# Altium schematic symbol library Gate Driver Board.SchLib: 120 symbols
Pins are listed as number, name and electrical type; pins without a type are passive.

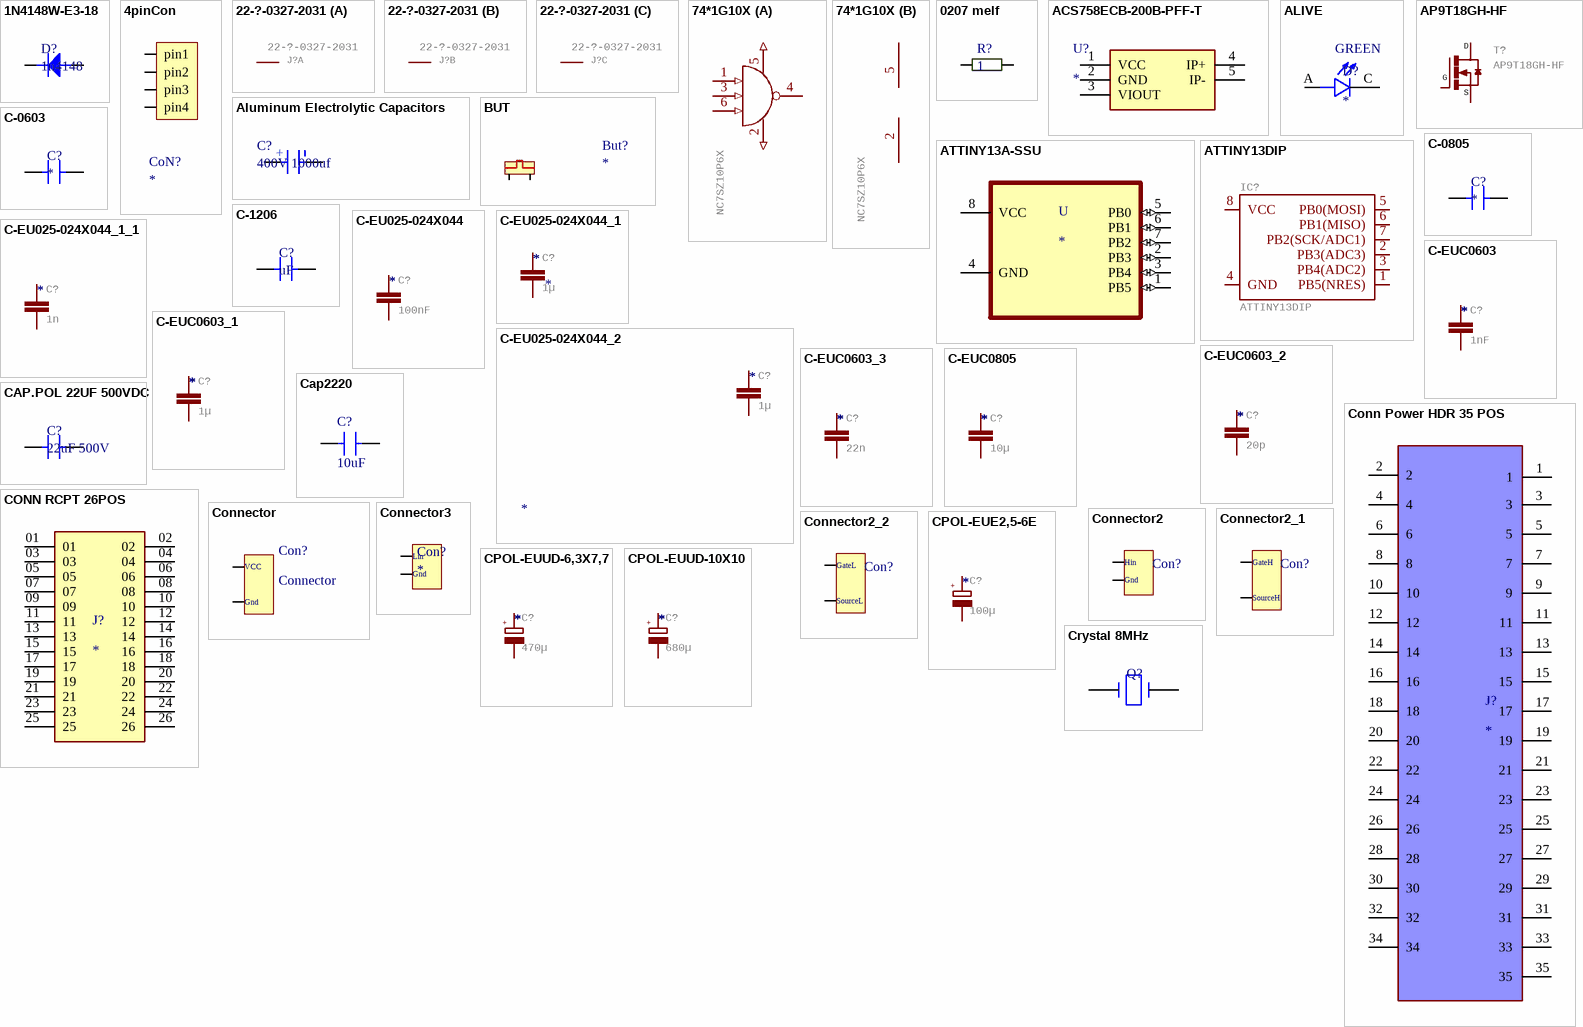
[diagram p0: symbols 1N4148W-E3-18 to Crystal 8MHz]

## 1N4148W-E3-18
designator D?, comment 1n4148
Diode Small Signal Switching 100V 0.15A 2-Pin SOD-123 T/R; Manufacturer: Vishay; Manufacturer Part Number: 1N4148W-E3-18; Recovery Time: 4ns; Max Power Dissipation: 350mW; Forward Current: 150mA; Max Surge Current: 2A; Forward Voltage: 1.2V; Max Reverse Leakage Current: 5uA; Element Configuration: Single; Max Reverse Voltage (DC): 75V; Peak Reverse Current: 100uA; Supplier 1: Allied Electronics; RoHS: Yes; Stock 1: 6838; Pricing 1: 1 = 0.03900, 25 = 0.03800, 100 = 0.03600, 250 = 0.03400, 500 = 0.03200, 1000 = 0.03100, 2500 = 0.02900 (USD); Mount: Surface Mount; Number of Pins: 2; Weight: 0.000363oz; Contact Plating: Tin; Min Operating Temperature: -55°C; Max Operating Temperature: 150°C; Packaging: Tape and Reel; Package Quantity: 10000; Average Rectified Current: 150mA; Reverse Recovery Time: 4ns; Power Dissipation: 350mW; Max Repetitive Reverse Voltage (Vrrm): 100V; Peak Non-Repetitive Surge Current: 2A; Length: 2.85mm; Height: 1.25mm; Width: 1.7mm; Radiation Hardening: No; Lead Free: Lead Free; ComponentLink1URL: https://datasheet.ciiva.com/29885/1n4148w-29885941.pdf?src-supplier=Avnet; ComponentLink1Description: https://datasheet.ciiva.com/29885/1n4148w-29885941.pdf?src-supplier=Avnet; ComponentLink2URL: https://datasheet.ciiva.com/29593/1n4148w-29593113.pdf?src-supplier=Digi-Key; ComponentLink2Description: https://datasheet.ciiva.com/29593/1n4148w-29593113.pdf?src-supplier=Digi-Key; ComponentLink3URL: https://datasheet.ciiva.com/29593/1n4148w-29593111.pdf?src-supplier=Digi-Key; ComponentLink3Description: https://datasheet.ciiva.com/29593/1n4148w-29593111.pdf?src-supplier=Digi-Key; ComponentLink4URL: https://datasheet.ciiva.com/29593/1n4148w-29593112.pdf?src-supplier=Digi-Key; ComponentLink4Description: https://datasheet.ciiva.com/29593/1n4148w-29593112.pdf?src-supplier=Digi-Key; Supplier Part Number 1: 70061597
footprint SOD123
pins: a, k

## 4pinCon
designator CoN?
footprint 4pinCon
pins: 1 pin1, 2 pin2, 3 pin3, 4 pin4

## 22-?-0327-2031
designator J?
CONNECTOR   wire to board 2.54 mm (.1 inch) pitch header; GateName_1: -1; SymbolName_1: MV; GateName_2: -2; SymbolName_2: M; GateName_3: -3; SymbolName_3: M; DeviceName: 27-2031; LibraryName: con-molex; DeviceSetName: 22-?-03; MF: MF; MPN: MPN; OC_FARNELL: unknown; OC_NEWARK: unknown
footprint 6410-03
part A pins: 1 S
part B pins: 2 S
part C pins: 3 S

## 74*1G10X
designator IC?, comment NC7SZ10P6X
3-input NAND gate; GateName_1: >NAME; SymbolName_1: 7412; GateName_2: PWR; SymbolName_2: PWRN-1; DeviceName: X; DeviceSetName: 74*1G10; LibraryName: 74xx-eu
footprint SC70-6
part A pins: 1 I0 (in), 2 I0 (in), 3 I1 (in), 4 O (oc), 5 I0 (in), 6 I2 (in)
part B pins: 2 GND (power), 5 VCC (power)

## 0207 melf
designator R?, comment 1
ComponentLink1Description: https://www.ozdisan.com/pasif-komponentler/direncler/smt-smd-direncler/M271UFG100KT20; ComponentLink1URL: https://www.ozdisan.com/pasif-komponentler/direncler/smt-smd-direncler/M271UFG100KT20
footprint RESMELF (MELF Resistor, 2-Leads, Body 5.85x2.30mm, IPC Medium Density)
pins: 1, 2

## ACS758ECB-200B-PFF-T
designator U?
Undefined or Miscellaneous; Manufacturer_Name: Allegro Microsystems; Manufacturer_Part_Number: ACS758ECB-200B-PFF-T; Datasheet Link: http://www.farnell.com/datasheets/926109.pdf; Arrow Part Number: ACS758ECB-200B-PFF-T; Arrow Price/Stock: https://www.arrow.com/en/products/acs758ecb-200b-pff-t/allegro-microsystems
footprint ACS756SCA-050B-PFF-T_2
footprint ACS756SCA-050B-PFF-T_2
pins: 1 VCC, 2 GND, 3 VIOUT, 4 IP+, 5 IP-

## ALIVE
designator D?
Green LED Indication - Discrete 1.7V 0805 (2012 Metric); MP: 7012X1; Package: None; Price: None; Value: *; Availability: Unavailable
footprint LED_7012X1
pins: A, C
text: GREEN

## Aluminum Electrolytic Capacitors
designator C?, comment 400V 1000uf
Manufacturer: Nichicon; Manufacturer Part Number: LKS1J472MESZ; Capacitance: 4.7mF; Voltage Rating: 63V; Tolerance: 20%; Ripple Current: 3A; Life (Hours): 1000Hour; Supplier 1: Mouser; RoHS: Yes; Mount: Through Hole; Case/Package: Radial; Min Operating Temperature: -40°C; Max Operating Temperature: 85°C; Package Quantity: 250; Packaging: Bulk; Voltage Rating (DC): 63V; Termination: Snap in; Diameter: 22mm; Length: 45mm; Lead Pitch: 0.394inch; Height - Seated (Max): 1.772inch; Supplier Part Number 1: 647-LKS1J472MESZ; ComponentLink2Description: https://www.ozdisan.com/pasif-komponentler/kondansatorler/aluminyum-kondansatorler/PKL5-063V472MM450; ComponentLink2URL: https://www.ozdisan.com/pasif-komponentler/kondansatorler/aluminyum-kondansatorler/PKL5-063V472MM450
footprint Koshin 63v 4700 cap
pins: 1, 2
text: +

## AP9T18GH-HF
designator T?
GateName_1: G$1; SymbolName_1: MOSFET_N; LibraryName: transistor-power; DeviceSetName: AP9T18GH-HF; D: D; S: S; G: G
footprint D-PAK_TO252AA
pins: 1 G, 3 S, 4 D

## ATTINY13A-SSU
designator U
AVR AVRÂ® ATtiny Microcontroller IC 8-Bit 20MHz 1KB _512 x 16_ FLASH 8-SOIC; MF: Microchip Technology; MP: ATTINY13A-SSU; Package: SOIC-8 Microchip Technology; Price: None; SnapEDA_Link: https://www.snapeda.com/parts/ATTINY13A-SSU/Microchip/view-part/4423156/?ref=snap; Availability: Unavailable; Value: *
footprint SOIC127P798X216-8N
pins: 1 PB5 (io), 2 PB3 (io), 3 PB4 (io), 4 GND, 5 PB0 (io), 6 PB1 (io), 7 PB2 (io), 8 VCC (power)

## ATTINY13DIP
designator IC?
Atmel 8-pin 1kB flash uC; GateName_1: G$1; DeviceName: DIP; SymbolName_1: ATTINY13; LibraryName: SparkFun-DigitalIC; DeviceSetName: ATTINY13
footprint DIP08
pins: 1 PB5(NRES) (io), 2 PB3(ADC3) (io), 3 PB4(ADC2) (io), 4 GND (io), 5 PB0(MOSI) (io), 6 PB1(MISO) (io), 7 PB2(SCK/ADC1) (io), 8 VCC (io)

## BUT
designator But?
footprint ButTON
pins: 1, 2

## C-0603
designator C?
footprint C-0603W (capacitor 0603 wave soldering)
pins: 1, 2

## C-0805
designator C?
footprint C-0805
pins: 1, 2

## C-1206
designator C?, comment uF
footprint C-1206
pins: 1, 2

## C-EU025-024X044
designator C?  value 100nF
CAPACITOR, European symbol; GateName_1: G$1; SymbolName_1: C-EU; DeviceName: 025-024X044; LibraryName: rcl; DeviceSetName: C-EU
footprint C025-024X044
pins: 1, 2

## C-EU025-024X044_1
designator C?  value 1µ
CAPACITOR, European symbol; GateName_1: G$1; SymbolName_1: C-EU; DeviceName: 025-024X044; LibraryName: rcl; DeviceSetName: C-EU
footprint C025-024X044
pins: 1, 2

## C-EU025-024X044_1_1
designator C?  value 1n
CAPACITOR, European symbol; GateName_1: G$1; SymbolName_1: C-EU; DeviceName: 025-024X044; LibraryName: rcl; DeviceSetName: C-EU
footprint C025-024X044
pins: 1, 2

## C-EU025-024X044_2
designator C?  value 1µ
CAPACITOR, European symbol; GateName_1: G$1; SymbolName_1: C-EU; DeviceName: 025-024X044; LibraryName: rcl; DeviceSetName: C-EU
footprint C025-024X044
pins: 1, 2

## C-EUC0603
designator C?  value 1nF
CAPACITOR, European symbol; GateName_1: G$1; SymbolName_1: C-EU; DeviceName: C0603; LibraryName: rcl; DeviceSetName: C-EU
footprint C0603
pins: 1, 2

## C-EUC0603_1
designator C?  value 1µ
CAPACITOR, European symbol; GateName_1: G$1; SymbolName_1: C-EU; DeviceName: C0603; LibraryName: rcl; DeviceSetName: C-EU
footprint C0603
pins: 1, 2

## C-EUC0603_2
designator C?  value 20p
CAPACITOR, European symbol; GateName_1: G$1; SymbolName_1: C-EU; DeviceName: C0603; LibraryName: rcl; DeviceSetName: C-EU
footprint C0603
pins: 1, 2

## C-EUC0603_3
designator C?  value 22n
CAPACITOR, European symbol; GateName_1: G$1; SymbolName_1: C-EU; DeviceName: C0603; LibraryName: rcl; DeviceSetName: C-EU
footprint C0603
pins: 1, 2

## C-EUC0805
designator C?  value 10µ
CAPACITOR, European symbol; GateName_1: G$1; SymbolName_1: C-EU; DeviceName: C0805; LibraryName: rcl; DeviceSetName: C-EU
footprint C0805
pins: 1, 2

## Cap2220
designator C?, comment 10uF
2220; Özdisan Part Number: CL31B475KBHNNNE; Manufacturer: SAMSUNG; Link: https://www.ozdisan.com/pasif-komponentler/kondansatorler/smd-kondansatorler-mlcc/CL31B475KBHNNNE; Price: 0,10407
footprint C-2220R (capacitor 2220 reflow soldering)
pins: 1, 2

## CAP.POL 22UF 500VDC
designator C?, comment 22uF 500V
ComponentLink1Description: https://www.ozdisan.com/pasif-komponentler/kondansatorler/film-kondansatorler/C3D2H226JB00C00; ComponentLink1URL: https://www.ozdisan.com/pasif-komponentler/kondansatorler/film-kondansatorler/C3D2H226JB00C00
footprint CAP.POL 22UF 500VDC - duplicate
pins: 1, 2

## Conn Power HDR 35 POS
designator J?
Conn Power HDR 35 POS 4mm Solder ST Thru-Hole 35 Terminal 1 Port Automotive Loose; MP: 776230-2; MF: TE Connectivity; Package: None; EU_RoHS_Compliance: Compliant; DigiKey-Purchase-URL: https://snapeda.com/shop?store=DigiKey&id=1466385; Value: *; Availability: Unavailable; Price: None; SnapEDA_Link: https://www.snapeda.com/parts/776230-2/TE%20Connectivity%20AMP%20Connectors/view-part/1466385/?ref=snap
footprint TE_776230-2
pins: 1, 2, 3, 4, 5, 6, 7, 8, 9, 10, 11, 12, 13, 14, 15, 16, 17, 18, 19, 20, 21, 22, 23, 24, 25, 26, 27, 28, 29, 30, 31, 32, 33, 34, 35

## CONN RCPT 26POS
designator J?
CONN RCPT 26POS 0.1 GOLD PCB; MF: Samtec; MP: SSQ-113-04-L-D; Purchase-URL: https://pricing.snapeda.com/search/part/SSQ-113-04-L-D/?ref=eda; SnapEDA_Link: https://www.snapeda.com/parts/SSQ-113-04-L-D/Samtec/view-part/?ref=snap; Value: *; Package: None; Check_prices: https://www.snapeda.com/parts/SSQ-113-04-L-D/Samtec/view-part/?ref=eda; Price: None; Availability: In Stock
footprint SAMTEC_SSQ-113-04-L-D
pins: 01, 02, 03, 04, 05, 06, 07, 08, 09, 10, 11, 12, 13, 14, 15, 16, 17, 18, 19, 20, 21, 22, 23, 24, 25, 26

## Connector
designator Con?
System: Connector
footprint Conn
pins: 1, 2
text: VCC; Gnd

## Connector2
designator Con?  (value not drawn)
System: Connector
footprint Conn
pins: 1, 2
text: Hin; Gnd

## Connector2_1
designator Con?  (value not drawn)
System: Connector
footprint Conn
pins: 1, 2
text: GateH; SourceH

## Connector2_2
designator Con?  (value not drawn)
System: Connector
footprint Conn
pins: 1, 2
text: GateL; SourceL

## Connector3
designator Con?
System: Connector
footprint Conn
pins: 1, 2
text: Lin; Gnd

## CPOL-EUE2,5-6E
designator C?  value 100µ
POLARIZED CAPACITOR, European symbol; GateName_1: G$1; SymbolName_1: CPOL; DeviceName: E2,5-6E; DeviceSetName: CPOL-EU; LibraryName: rcl; +: +
footprint E2,5-6E
pins: +, -

## CPOL-EUUD-6,3X7,7
designator C?  value 470µ
POLARIZED CAPACITOR, European symbol; GateName_1: G$1; SymbolName_1: CPOL; DeviceName: UD-6,3X7,7; DeviceSetName: CPOL-EU; LibraryName: rcl; +: +
footprint UD-6,3X7,7_NICHICON
pins: +, -

## CPOL-EUUD-10X10
designator C?  value 680µ
POLARIZED CAPACITOR, European symbol; GateName_1: G$1; SymbolName_1: CPOL; DeviceName: UD-10X10; DeviceSetName: CPOL-EU; LibraryName: rcl; +: +
footprint UD-10X10_NICHICON
pins: +, -

## Crystal 8MHz
designator Q?  (value not drawn)
32MHz Â±30ppm Crystal 18pF 40 Ohms HC-49/US; MF: Abracon; MP: ABLS2-32.000MHZ-D4YF-T; SnapEDA_Link: https://www.snapeda.com/parts/ABLS2-32.000MHZ-D4YF-T/Abracon%20LLC/view-part/333468/?ref=snap; Digi-Key_Part_Number: 535-9888-1-ND; Mouser-Purchase-URL: https://snapeda.com/shop?store=Mouser&id=333468; Value: *; Package: HC49/US Abracon; DigiKey-Purchase-URL: https://snapeda.com/shop?store=DigiKey&id=333468; Check_prices: https://www.snapeda.com/parts/ABLS2-32.000MHZ-D4YF-T/Abracon%20LLC/view-part/333468/?ref=eda
footprint 5032-2P
pins: 1, 2

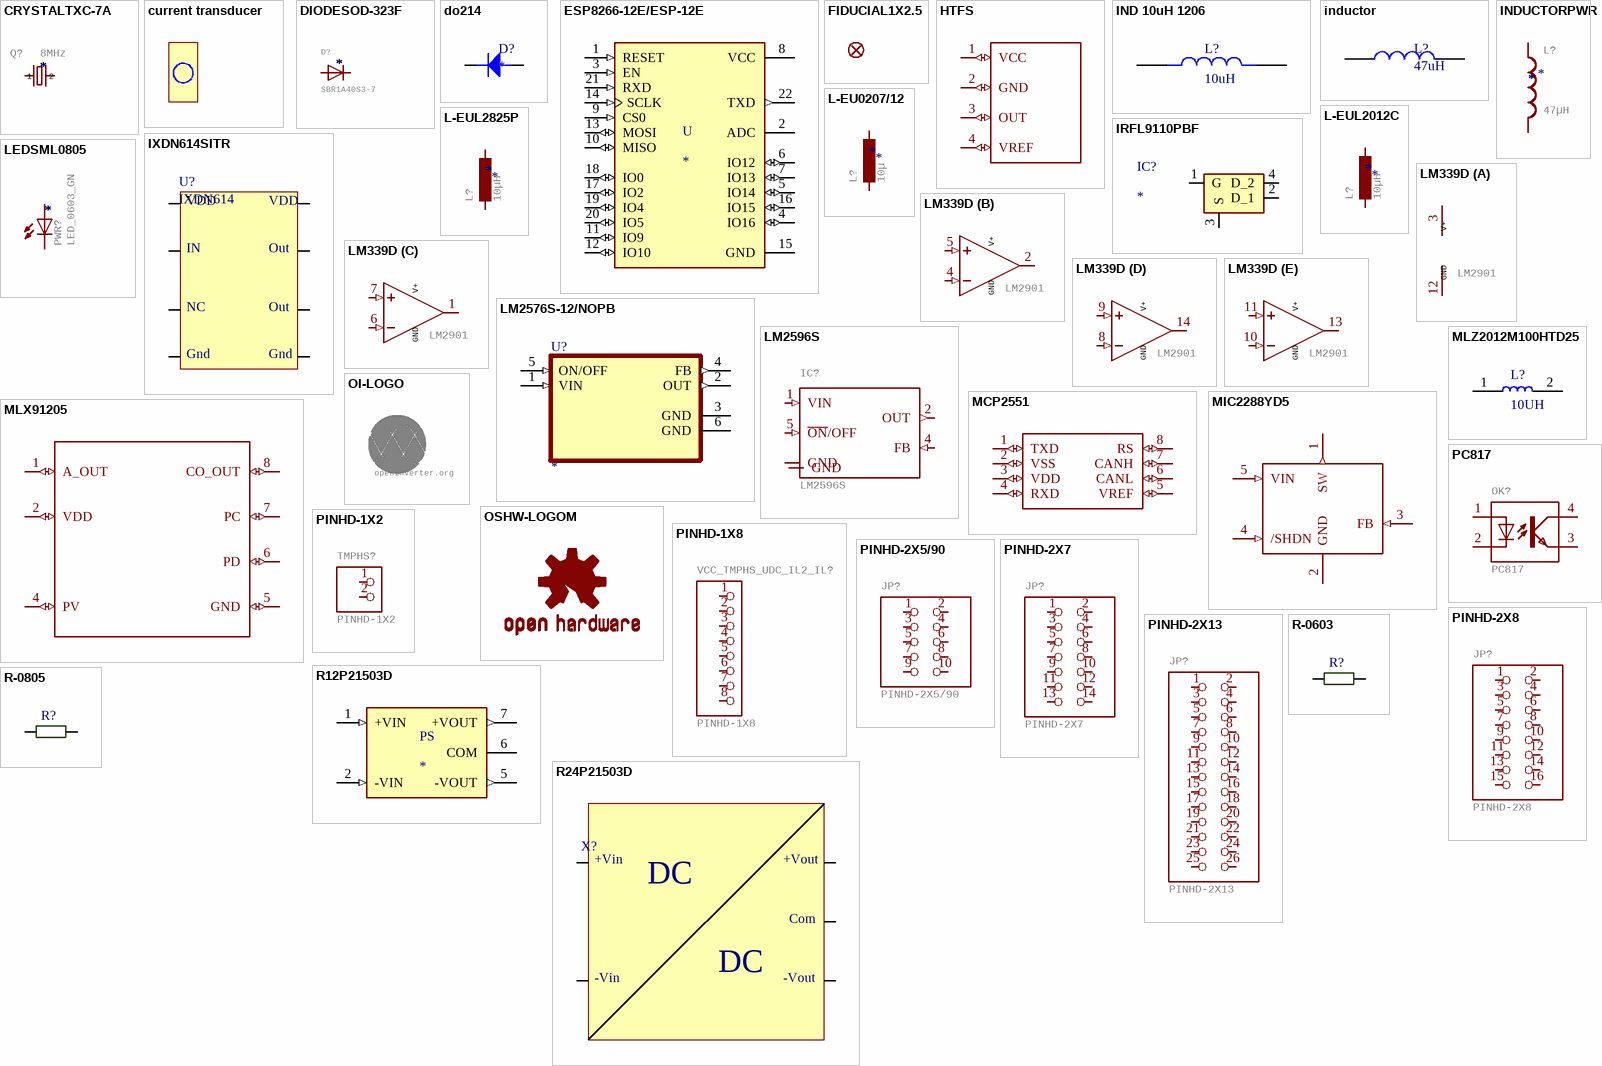
[diagram p1: symbols CRYSTALTXC-7A to R-0805]

## CRYSTALTXC-7A
designator Q?  value 8MHz
Various standard crystals. Proven footprints. Spark Fun Electronics SKU : COM-00534; GateName_1: G$1; SymbolName_1: Q; DeviceName: TXC-7A; LibraryName: SparkFun-FreqCtrl; DeviceSetName: CRYSTAL; 1: 1; 2: 2
footprint CRYSTAL-TXC-7A
pins: P$1 1, P$2 2

## current transducer
designator *  (value not drawn)
footprint currenttransducer

## DIODESOD-323F
designator D?  value SBR1A40S3-7
Diode   SMADIODE - SMA Surface Mount Package  20V 1A Schottky Diode Digikey: 641-1014-6-ND    DO-1N4148 - Through Hole Small Current Diode SOD-123 20V 1 A (.5mV Vf) Schottky Diode - Digikey: MBRX120TPMSCT-ND    SOD-323 10V 570mA (.38mV Vf, 3ns) Schottky Diode - Digikey: ZLLS410CT-ND    SOD-523 30V 30mA Schottky Diode (RB751S-40TE61) - Digikey: RB751S-40TE61CT-ND    SOT23-R/W - SOT23 Package (R = Solder Paste/Reflow Ovens, W = Hand-Soldering)  BAT54Film 40V 300mA - Digikey: 497-7162-1-ND; GateName_1: G$1; DeviceName: SOD-323F; SymbolName_1: DIODE; LibraryName: adafruit; DeviceSetName: DIODE
footprint SOD-323F
pins: A, C

## do214
designator D?
DIODE FAST SWITCHING Single 150mA 75V SMT SOD323
footprint DO-214AC
pins: a, k

## ESP8266-12E/ESP-12E
designator U
This WiFi module has a 32-bit MCU micro and clock speeds supporting 80 MHz or 160 MHz. Supports the RTOS and integrated Wi-Fi MAC/BB/RF/PA/LNA, and has an on-board antenna.; MP: ESP8266-12E/ESP-12E; MF: AI-Thinker; Price: None; Package: None; Value: *; Availability: Unavailable; SnapEDA_Link: https://www.snapeda.com/parts/ESP8266-12E/ESP-12E/AI-Thinker/view-part/106414/?ref=snap
footprint XCVR_ESP8266-12E/ESP-12E
pins: 1 RESET (in), 2 ADC, 3 EN (in), 4 IO16 (io), 5 IO14 (io), 6 IO12 (io), 7 IO13 (io), 8 VCC (power), 9 CS0 (in), 10 MISO (io), 11 IO9 (io), 12 IO10 (io), 13 MOSI (io), 14 SCLK (in), 15 GND (power), 16 IO15 (io), 17 IO2 (io), 18 IO0 (io), 19 IO4 (io), 20 IO5 (io), 21 RXD (in), 22 TXD (out)

## FIDUCIAL1X2.5
designator FID?  (value not drawn)
Fiducial Alignment PointsVarious fiducial points for machine vision alignment.; GateName_1: G$1; DeviceName: 1X2.5; SymbolName_1: FIDUCIAL; LibraryName: SparkFun-Aesthetics; DeviceSetName: FIDUCIAL
footprint FIDUCIAL-1X2.5

## HTFS
designator U$?  (value not drawn)
GateName_1: G$1; SymbolName_1: HTFS; LibraryName: lem; DeviceSetName: HTFS
footprint HTFS
pins: 1 VCC (io), 2 GND (io), 3 OUT (io), 4 VREF (io)

## IND 10uH 1206
designator L?, comment 10uH
3.33 ÂµH Unshielded - Inductor 50 mA 700mOhm Max 1206 (3216 Metric); MF: Laird; MP: IC1206A332R-10; Value: *; Availability: In Stock; Price: None; Package: 1206 Laird
footprint IND_IC1206A332R-10
pins: 1, 2

## inductor
designator L?, comment 47uH
footprint WE-TPC_282892
pins: 1, 2

## INDUCTORPWR
designator L?  value 47µH
Inductors   Basic Inductor/Choke - 0603 and 1206. Footprints are not proven and vary greatly between part numbers. SRN6045- 33uH, 20% 1.4A; GateName_1: G$1; DeviceName: PWR; SymbolName_1: INDUCTOR; LibraryName: SparkFun-Passives; DeviceSetName: INDUCTOR
footprint CDRH125
pins: 1, 2

## IRFL9110PBF
designator IC?
Integrated Circuit; Manufacturer_Name: Vishay; Manufacturer_Part_Number: IRFL9110PBF; Datasheet Link: http://www.vishay.com/docs/91196/sihfl911.pdf; Height: 1.8mm; Mouser Part Number: 844-IRFL9110PBF; Mouser Price/Stock: https://www.mouser.com/Search/Refine.aspx?Keyword=844-IRFL9110PBF
footprint SOT230P700X180-4N
pins: 1 G, 2 D_1, 3 S, 4 D_2

## IXDN614SITR
designator U?, comment IXDN614
14A 8SOIC EXP MTL NON INVERTING; Manufacturer: Ixys Clare; Manufacturer Part Number: IXDN614SITR; Rise Time: 35ns; Propagation Delay: 70ns; Max Supply Voltage: 35V; Min Supply Voltage: 4.5V; Number of Outputs: 1; Fall Time: 25ns; Supplier 1: Mouser; RoHS: Yes; Pricing 1: 1 = 4.24000, 10 = 3.79000, 50 = 3.41000, 100 = 3.10000, 1000 = 2.12000, 10000 = 1.90000 (USD); Mount: Surface Mount; Case/Package: SOIC; Number of Pins: 8; Min Operating Temperature: -40°C; Max Operating Temperature: 125°C; Max Output Current: 14A; Packaging: Tape and Reel; Package Quantity: 2000; Number of Drivers: 1; Lead Free: Lead Free; ComponentLink1URL: https://datasheet.ciiva.com/6613/ixd-614-6613145.pdf?src-supplier=Digi-Key; ComponentLink1Description: https://datasheet.ciiva.com/6613/ixd-614-6613145.pdf?src-supplier=Digi-Key; Supplier Part Number 1: 849-IXDN614SITR
footprint FAN3122 Soic8 (SOIC, 8-Leads, Body 4.95x3.95mm, Pitch 1.27mm, Thermal Pad 4.10x3.10mm, IPC Medium Density)
pins: 1, 2, 3, 4, 5, 6, 7, 8
text: VDD; IN; Out; NC; Gnd

## L-EU0207/12
designator L?  value 10µ
INDUCTOR, European symbol; GateName_1: G$1; SymbolName_1: L-EU; DeviceName: 0207/12; LibraryName: rcl; DeviceSetName: L-EU
footprint 0207/12
pins: 1, 2

## L-EUL2012C
designator L?  value 10µH
INDUCTOR, European symbol; GateName_1: G$1; SymbolName_1: L-EU; DeviceName: L2012C; LibraryName: rcl; DeviceSetName: L-EU
footprint L2012C
pins: 1, 2

## L-EUL2825P
designator L?  value 10µH
INDUCTOR, European symbol; GateName_1: G$1; SymbolName_1: L-EU; DeviceName: L2825P; LibraryName: rcl; DeviceSetName: L-EU
footprint L2825P
pins: 1, 2

## LEDSML0805
designator PWR?  value LED_0603_GN
LED   OSRAM: - CHIPLED LG R971, LG N971, LY N971, LG Q971, LY Q971, LO R971, LY R971 LH N974, LH R974 LS Q976, LO Q976, LY Q976 LO Q996 - Hyper CHIPLED LW Q18S LB Q993, LB Q99A, LB R99A - SideLED LS A670, LO A670, LY A670, LG A670, LP A670 LB A673, LV A673, LT A673, LW A673 LH A674 LY A675 LS A676, LA A676, LO A676, LY A676, LW A676 LS A679, LY A679, LG A679 -  Hyper Micro SIDELEDÂ® LS Y876, LA Y876, LO Y876, LY Y876 LT Y87S - SmartLED LW L88C, LW L88S LB L89C, LB L89S, LG L890 LS L89K, LO L89K, LY L89K LS L896, LA L896, LO L896, LY L896 - TOPLED LS T670, LO T670, LY T670, LG T670, LP T670 LSG T670, LSP T670, LSY T670, LOP T670, LYG T670 LG T671, LOG T671, LSG T671 LB T673, LV T673, LT T673, LW T673 LH T674 LS T676, LA T676, LO T676, LY T676, LB T676, LH T676, LSB T676, LW T676 LB T67C, LV T67C, LT T67C, LS T67K, LO T67K, LY T67K, LW E67C LS E67B, LA E67B, LO E67B, LY E67B, LB E67C, LV E67C, LT E67C LW T67C LS T679, LY T679, LG T679 LS T770, LO T770, LY T770, LG T770, LP T770 LB T773, LV T773, LT T773, LW T773 LH T774 LS E675, LA E675, LY E675, LS T675 LS T776, LA T776, LO T776, LY T776, LB T776 LHGB T686 LT T68C, LB T68C - Hyper Mini TOPLEDÂ® LB M676 - Mini TOPLED SantanaÂ® LG M470 LS M47K, LO M47K, LY M47K    Source: http://www.osram.convergy.de   LUXEON: - LUMILEDÂ® LXK2-PW12-R00, LXK2-PW12-S00, LXK2-PW14-U00, LXK2-PW14-V00 LXK2-PM12-R00, LXK2-PM12-S00, LXK2-PM14-U00 LXK2-PE12-Q00, LXK2-PE12-R00, LXK2-PE12-S00, LXK2-PE14-T00, LXK2-PE14-U00 LXK2-PB12-K00, LXK2-PB12-L00, LXK2-PB12-M00, LXK2-PB14-N00, LXK2-PB14-P00, LXK2-PB14-Q00 LXK2-PR12-L00, LXK2-PR12-M00, LXK2-PR14-Q00, LXK2-PR14-R00 LXK2-PD12-Q00, LXK2-PD12-R00, LXK2-PD12-S00 LXK2-PH12-R00, LXK2-PH12-S00 LXK2-PL12-P00, LXK2-PL12-Q00, LXK2-PL12-R00    Source: www.luxeon.com   KINGBRIGHT:   KA-3528ASYC Source: www.kingbright.com; GateName_1: G$1; DeviceName: SML0805; SymbolName_1: LED; LibraryName: led; DeviceSetName: LED
footprint SML0805
pins: A, C

## LM339D
designator IC?, comment LM2901
Low Power Low Offset Voltage Quad Comparators   with open collector; LM139/LM239/LM339/LM2901/LM3302; GateName_1: P; SymbolName_1: PWR+G; GateName_2: A; SymbolName_2: COMPARATOR-OC; GateName_3: B; GateName_4: C; GateName_5: D; DeviceSetName: LM339; SymbolName_3: COMPARATOR-OC; SymbolName_4: COMPARATOR-OC; SymbolName_5: COMPARATOR-OC; DeviceName: D; LibraryName: linear; V+: V+; GND: GND
footprint SO14
part A pins: 3 V+ (power), 12 GND (power)
part B pins: 2 OUT (oc), 4 -IN (in), 5 +IN (in)
part C pins: 1 OUT (oc), 6 -IN (in), 7 +IN (in)
part D pins: 8 -IN (in), 9 +IN (in), 14 OUT (oc)
part E pins: 10 -IN (in), 11 +IN (in), 13 OUT (oc)

## LM2576S-12/NOPB
designator U?
SIMPLE SWITCHER&reg; 40V, 3A Low Component Count Step-Down Regulator 5-DDPAK/TO-263 -40 to 125; MF: Texas Instruments; MP: LM2576S-12/NOPB; Availability: Warning; SnapEDA_Link: https://www.snapeda.com/parts/LM2576S-12/NOPB/Texas%20Instruments/view-part/470772/?ref=snap; Mouser-Purchase-URL: https://snapeda.com/shop?store=Mouser&id=470772; Texas_Instruments-Purchase-URL: https://snapeda.com/shop?store=Texas+Instruments&id=470772; Value: *; Price: None; Package: TO-263-5 Texas Instruments; DigiKey-Purchase-URL: https://snapeda.com/shop?store=DigiKey&id=470772; BuyPart: https://www.snapeda.com/parts/LM2576S-12/NOPB/Texas%20Instruments/view-part/470772/?ref=eda
footprint VREG_TPS79625KTTR
pins: 1 VIN (in), 2 OUT (out), 3 GND (power), 4 FB (out), 5 ON/OFF (in), 6 GND (power)

## LM2596S
designator IC?
SIMPLE SWITCHERÂ® Power Converter 150 kHz 3A Step-Down Voltage Regulator   Source: http://www.national.com/ds/LM/LM2596.pdf; MPN: LM2596S-ADJ/NOPB; GateName_1: G$1; SymbolName_1: LM2596; DeviceName: S; MF: NATIONAL SEMICONDUCTOR; LibraryName: national-semiconductor; DeviceSetName: LM2596; OC_FARNELL: 9494367; OC_NEWARK: 41K3842
footprint TO263-5
pins: 1 VIN (in), 2 OUT (out), 3  GND (power), 4 FB (in), 5 ~{ON}/OFF (in), 6 GND (power)

## MCP2551
designator IC?, comment SN65HVD230DR  (value not drawn)
CAN transceiver; GateName_1: G$1; SymbolName_1: MCP2551; LibraryName: SparkFun-DigitalIC; DeviceSetName: MCP2551
footprint SO08
pins: 1 TXD (io), 2 VSS (io), 3 VDD (io), 4 RXD (io), 5 VREF (io), 6 CANL (io), 7 CANH (io), 8 RS (io)

## MIC2288YD5
designator IC?  (value not drawn)
GateName_1: G$1; DeviceName: YD5; SymbolName_1: MIC2288; LibraryName: adafruit; DeviceSetName: MIC2288
footprint SOT23-5L
pins: 1 SW (out), 2 GND (power), 3 FB (in), 4 /SHDN (in), 5 VIN (in)

## MLX91205
designator IC?  (value not drawn)
GateName_1: G$1; SymbolName_1: MLX91205; LibraryName: melexis; DeviceSetName: MLX91205
footprint SO-08
pins: 1 A_OUT (io), 2 VDD (io), 4 PV (io), 5 GND (io), 6 PD (io), 7 PC (io), 8 CO_OUT (io)

## MLZ2012M100HTD25
designator L?, comment 10UH
FIXED IND 10UH 300MA 884 MOHM; MP: MLZ2012M100HTD25; Package: None; Price: None; Value: *; Availability: Unavailable
footprint INDC2012X87N
pins: 1, 2

## OI-LOGO
designator U$?  (value not drawn)
GateName_1: G$1; SymbolName_1: OI-LOGO; LibraryName: SparkFun-Aesthetics; DeviceSetName: OI-LOGO; openinverter.org: openinverter.org
footprint OI_LOGO

## OSHW-LOGOM
designator LOGO?  (value not drawn)
Open Source Hardware Logo This logo indicates the piece of hardware it is found on incorporates a OSHW license and/or adheres to the definition of open source hardware found here: http://freedomdefined.org/OSHW; GateName_1: G$1; DeviceName: M; SymbolName_1: OSHW-LOGO; LibraryName: SparkFun-Aesthetics; DeviceSetName: OSHW-LOGO
footprint OSHW-LOGO-M

## PC817
designator OK?
SHARP OPTO COUPLER; MPN: PC817X4J000F; GateName_1: A; SymbolName_1: OK; LibraryName: optocoupler; DeviceSetName: PC817; MF: MF; OC_FARNELL: 9707727; OC_NEWARK: 97K7059
footprint DIL04
pins: 1 A, 2 C, 3 EMIT, 4 COL

## PINHD-1X2
designator TMPHS?
PIN HEADER; GateName_1: G$1; SymbolName_1: PINHD2; LibraryName: pinhead; DeviceSetName: PINHD-1X2
footprint 1X02
pins: 1, 2

## PINHD-1X8
designator VCC_TMPHS_UDC_IL2_IL?
PIN HEADER; GateName_1: A; SymbolName_1: PINHD8; LibraryName: pinhead; DeviceSetName: PINHD-1X8
footprint 1X08
pins: 1, 2, 3, 4, 5, 6, 7, 8

## PINHD-2X5/90
designator JP?
PIN HEADER; GateName_1: A; SymbolName_1: PINH2X5; DeviceName: /90; LibraryName: pinhead; DeviceSetName: PINHD-2X5
footprint 2X05/90
pins: 1, 2, 3, 4, 5, 6, 7, 8, 9, 10

## PINHD-2X7
designator JP?
PIN HEADER; GateName_1: A; SymbolName_1: PINH2X7; LibraryName: pinhead; DeviceSetName: PINHD-2X7
footprint 2X07
pins: 1, 2, 3, 4, 5, 6, 7, 8, 9, 10, 11, 12, 13, 14

## PINHD-2X8
designator JP?
PIN HEADER; GateName_1: A; SymbolName_1: PINH2X8; LibraryName: pinhead; DeviceSetName: PINHD-2X8
footprint 2X08
pins: 1, 2, 3, 4, 5, 6, 7, 8, 9, 10, 11, 12, 13, 14, 15, 16

## PINHD-2X13
designator JP?
PIN HEADER; GateName_1: A; SymbolName_1: PINH2X13; LibraryName: pinhead; DeviceSetName: PINHD-2X13
footprint 2X13
pins: 1, 2, 3, 4, 5, 6, 7, 8, 9, 10, 11, 12, 13, 14, 15, 16, 17, 18, 19, 20, 21, 22, 23, 24, 25, 26

## R12P21503D
designator PS
2W DC/DC-Converter 'ECONOLINE' SIP7 6.4kV unreg; MF: Recom Power; MP: R12P21503D; SnapEDA_Link: https://www.snapeda.com/parts/R12P21503D/Recom%20Power/view-part/1592429/?ref=snap; Value: *; Digi-Key_Purchase_URL: https://www.digikey.ca/product-detail/en/recom-power/R12P21503D/945-3069-5-ND/7354331?utm_source=snapeda&utm_medium=aggregator&utm_campaign=symbol; Digi-Key_Part_Number: 945-3069-5-ND; Package: SIP-7 Recom Power
footprint CONV_R12P21503D
pins: 1 +VIN (in), 2 -VIN (in), 5 -VOUT (out), 6 COM (power), 7 +VOUT (out)

## R24P21503D
designator X?
Manufacturer: Recom; Manufacturer Part Number: R24P21503D; Max Output Voltage: 15V; Supplier 1: Digi-Key; RoHS: No; Stock 1: 378; Pricing 1: 1 = 8.78000, 5 = 8.71200, 10 = 8.64500, 25 = 8.51200, 50 = 8.24600, 100 = 7.44800, 250 = 7.31500, 500 = 7.18200 (USD); Weight: 4.3g; Length: 19.5mm; Height: 12.5mm; Width: 9.8mm; Supplier Part Number 1: 945-3071-5-ND
footprint SIP7
pins: 1, 2, 5, 6, 7
text: +Vin; +Vout; DC; Com; -Vin; -Vout

## R-0603
designator R?
footprint R-0603R (resistor 0603 reflow soldering)
pins: 1, 2

## R-0805
designator R?
footprint R-0805
pins: 1, 2

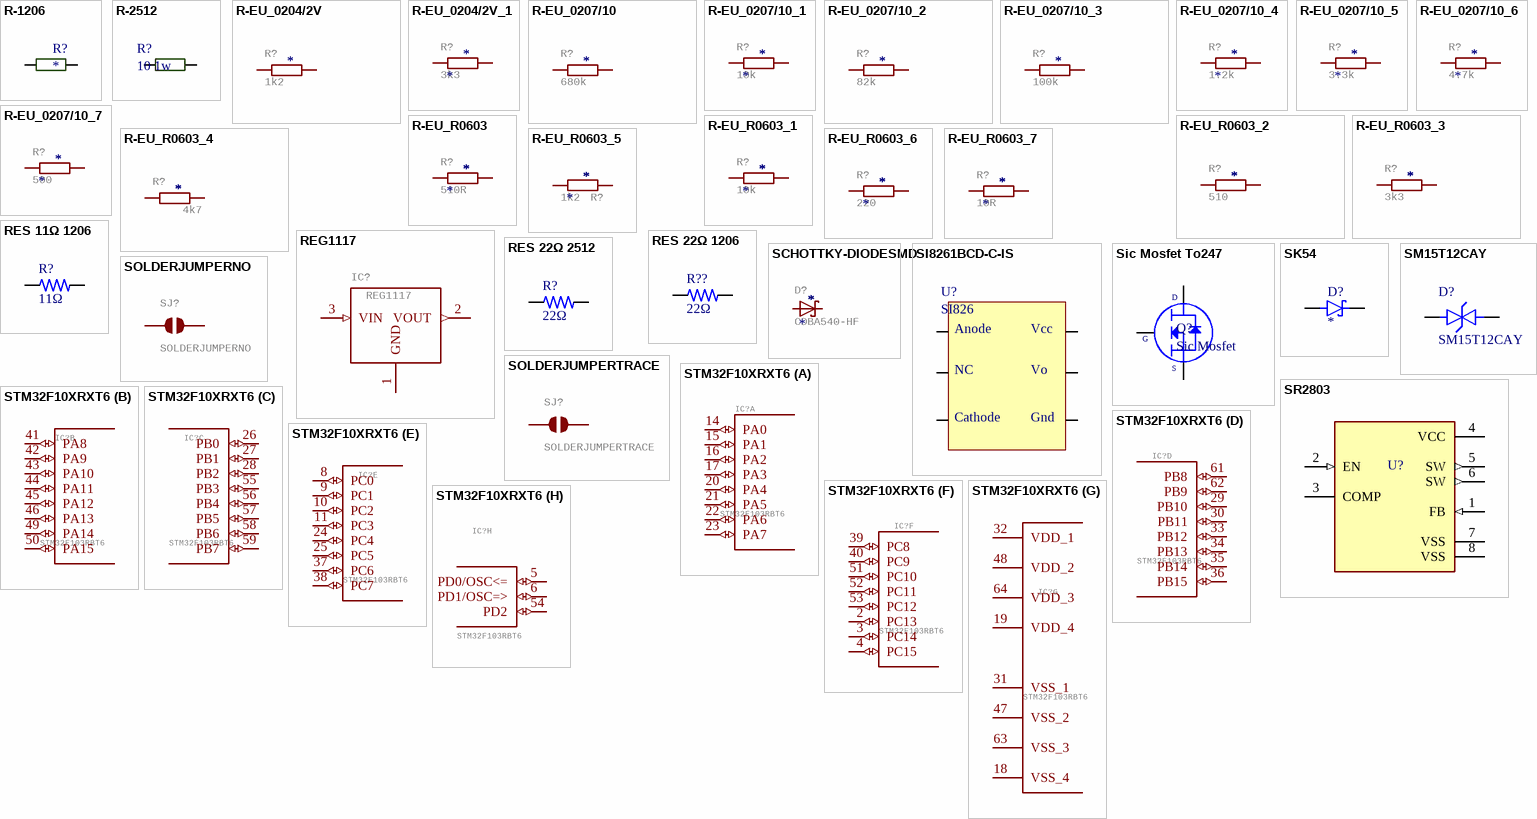
[diagram p2: symbols R-1206 to STM32F10XRXT6]

## R-1206
designator R?
Res1206
footprint R-1206
pins: 1, 2

## R-2512
designator R?, comment 10 1w
footprint R-2512
pins: 1, 2

## R-EU_0204/2V
designator R?  value 1k2
RESISTOR, European symbol; GateName_1: G$1; SymbolName_1: R-EU; DeviceName: 0204/2V; DeviceSetName: R-EU_; LibraryName: rcl
footprint 0204V
pins: 1, 2

## R-EU_0204/2V_1
designator R?  value 3k3
RESISTOR, European symbol; GateName_1: G$1; SymbolName_1: R-EU; DeviceName: 0204/2V; DeviceSetName: R-EU_; LibraryName: rcl
footprint 0204V
pins: 1, 2

## R-EU_0207/10
designator R?  value 680k
RESISTOR, European symbol; GateName_1: G$1; SymbolName_1: R-EU; DeviceName: 0207/10; DeviceSetName: R-EU_; LibraryName: rcl
footprint 0207/10
pins: 1, 2

## R-EU_0207/10_1
designator R?  value 10k
RESISTOR, European symbol; GateName_1: G$1; SymbolName_1: R-EU; DeviceName: 0207/10; DeviceSetName: R-EU_; LibraryName: rcl
footprint 0207/10
pins: 1, 2

## R-EU_0207/10_2
designator R?  value 82k
RESISTOR, European symbol; GateName_1: G$1; SymbolName_1: R-EU; DeviceName: 0207/10; DeviceSetName: R-EU_; LibraryName: rcl
footprint 0207/10
pins: 1, 2

## R-EU_0207/10_3
designator R?  value 100k
RESISTOR, European symbol; GateName_1: G$1; SymbolName_1: R-EU; DeviceName: 0207/10; DeviceSetName: R-EU_; LibraryName: rcl
footprint 0207/10
pins: 1, 2

## R-EU_0207/10_4
designator R?  value 1.2k
RESISTOR, European symbol; GateName_1: G$1; SymbolName_1: R-EU; DeviceName: 0207/10; DeviceSetName: R-EU_; LibraryName: rcl
footprint 0207/10
pins: 1, 2

## R-EU_0207/10_5
designator R?  value 3.3k
RESISTOR, European symbol; GateName_1: G$1; SymbolName_1: R-EU; DeviceName: 0207/10; DeviceSetName: R-EU_; LibraryName: rcl
footprint 0207/10
pins: 1, 2

## R-EU_0207/10_6
designator R?  value 4.7k
RESISTOR, European symbol; GateName_1: G$1; SymbolName_1: R-EU; DeviceName: 0207/10; DeviceSetName: R-EU_; LibraryName: rcl
footprint 0207/10
pins: 1, 2

## R-EU_0207/10_7
designator R?  value 500
RESISTOR, European symbol; GateName_1: G$1; SymbolName_1: R-EU; DeviceName: 0207/10; DeviceSetName: R-EU_; LibraryName: rcl
footprint 0207/10
pins: 1, 2

## R-EU_R0603
designator R?  value 510R
RESISTOR, European symbol; GateName_1: G$1; SymbolName_1: R-EU; DeviceName: R0603; DeviceSetName: R-EU_; LibraryName: rcl
footprint R0603
pins: 1, 2

## R-EU_R0603_1
designator R?  value 10k
RESISTOR, European symbol; GateName_1: G$1; SymbolName_1: R-EU; DeviceName: R0603; DeviceSetName: R-EU_; LibraryName: rcl
footprint R0603
pins: 1, 2

## R-EU_R0603_2
designator R?  value 510
RESISTOR, European symbol; GateName_1: G$1; SymbolName_1: R-EU; DeviceName: R0603; DeviceSetName: R-EU_; LibraryName: rcl
footprint R0603
pins: 1, 2

## R-EU_R0603_3
designator R?  value 3k3
RESISTOR, European symbol; GateName_1: G$1; SymbolName_1: R-EU; DeviceName: R0603; DeviceSetName: R-EU_; LibraryName: rcl
footprint R0603
pins: 1, 2

## R-EU_R0603_4
designator R?  value 4k7
RESISTOR, European symbol; GateName_1: G$1; SymbolName_1: R-EU; DeviceName: R0603; DeviceSetName: R-EU_; LibraryName: rcl
footprint R0603
pins: 1, 2

## R-EU_R0603_5
designator R?  value 1k2
RESISTOR, European symbol; GateName_1: G$1; SymbolName_1: R-EU; DeviceName: R0603; DeviceSetName: R-EU_; LibraryName: rcl
footprint R0603
pins: 1, 2

## R-EU_R0603_6
designator R?  value 220
RESISTOR, European symbol; GateName_1: G$1; SymbolName_1: R-EU; DeviceName: R0603; DeviceSetName: R-EU_; LibraryName: rcl
footprint R0603
pins: 1, 2

## R-EU_R0603_7
designator R?  value 10R
RESISTOR, European symbol; GateName_1: G$1; SymbolName_1: R-EU; DeviceName: R0603; DeviceSetName: R-EU_; LibraryName: rcl
footprint R0603
pins: 1, 2

## REG1117
designator IC?
800mA and 1A Low Dropout (LDO) Positive Regulator   1.8V, 2.5V, 2.85V, 3.3V, 5V, and Adj; GateName_1: G$1; SymbolName_1: REG1118; LibraryName: burr-brown; DeviceSetName: REG1117; MF: MF; MPN: REG1117; OC_FARNELL: 1097566; OC_NEWARK: 14P6981
footprint SOT223
pins: 1 GND (power), 2 VOUT (out), 3 VIN (in)

## RES 11Ω 1206
designator R?, comment 11Ω
CRG1206 1% 11R; MP: 1623463-1; Package: None; Price: None; Value: *; Availability: Unavailable
footprint R-1206W (resistor 1206 wave soldering)
pins: 1, 2

## RES 22Ω 1206
designator R??, comment 22Ω
CRG1206 1% 22R; MP: 1623463-1; Package: None; Price: None; Value: *; Availability: Unavailable
footprint R-1206W (resistor 1206 wave soldering)
pins: 1, 2

## RES 22Ω 2512
designator R?, comment 22Ω
footprint R-2512R (resistor 2512 reflow soldering)
footprint R-1206
pins: 1, 2

## SCHOTTKY-DIODESMD
designator D?  value CDBA540-HF
Schottky Diode; GateName_1: G$1; DeviceName: SMD; DeviceSetName: SCHOTTKY-DIODE; SymbolName_1: SCHOTTKY; LibraryName: diode
footprint SMB
pins: A, C

## SI8261BCD-C-IS
designator U?, comment SI826
Gate Drivers 5kV Opto input single Ch 2.5A drvr; Manufacturer: Silicon Labs; Manufacturer Part Number: SI8261BCD-C-IS; Number of Channels: 1; Propagation Delay: 50ns; Number of Outputs: 2; Max Output Current: 4A; Max Supply Voltage: 30V; Min Supply Voltage: 5V; Rise Time: 5.5ns; Output Current: 10mA; Nominal Supply Current: 2mA; Max Power Dissipation: 300mW; Output Voltage: 250mV; Forward Voltage: 2.8V; High Level Output Current: 1.2A; Low Level Output Current: 500mA; Fall Time: 8.5ns; Turn-On Delay Time: 60ns; Pulse Width Distortion (PWD): 10ns; Approvals: CSA; Supplier 1: Digi-Key; RoHS: Yes; Stock 1: 6966; Pricing 1: 1 = 1.95000, 25 = 1.88040, 100 = 1.80800, 1000 = 1.65000 (USD); Case/Package: SOIC; Number of Pins: 6; Min Operating Temperature: -40°C; Max Operating Temperature: 125°C; Package Quantity: 96; Packaging: Rail/Tube; Number of Drivers: 1; Element Configuration: Single; Length: 4.58mm; Height: 2.05mm; Width: 11.5mm; REACH SVHC: Unknown; ComponentLink1URL: https://datasheet.ciiva.com/30476/0900766b81299254-30476857.pdf?src-supplier=RSComponents; ComponentLink1Description: https://datasheet.ciiva.com/30476/0900766b81299254-30476857.pdf?src-supplier=RSComponents; ComponentLink2URL: https://datasheet.ciiva.com/18617/si826x-rev0-9-18617221.pdf?src-supplier=Digi-Key; ComponentLink2Description: https://datasheet.ciiva.com/18617/si826x-rev0-9-18617221.pdf?src-supplier=Digi-Key; ComponentLink3URL: https://datasheet.ciiva.com/46409/1816586-46409901.pdf?src-supplier=Element14; ComponentLink3Description: https://datasheet.ciiva.com/46409/1816586-46409901.pdf?src-supplier=Element14; Supplier Part Number 1: 336-2418-5-ND
footprint SOIC127P1150X265-6N
pins: 1, 2, 3, 4, 5, 6
text: Anode; Vcc; NC; Vo; Cathode; Gnd

## Sic Mosfet To247
designator Q?, comment Sic Mosfet
SiC Mosfet To247
footprint 247
pins: 1, 2, 3
text: D; G; S

## SK54
designator D?
Diode Schottky 40V 5A Surface Mount DO-214AA (SMB); MP: MBRS320T3G; MF: ON Semiconductor; Package: DO-214 ON Semiconductor; Availability: Good; Arrow_Electronics-Purchase-URL: https://snapeda.com/shop?store=Arrow+Electronics&id=432205; SnapEDA_Link: https://www.snapeda.com/parts/MBRS320T3G/ON%20Semiconductor/view-part/432205/?ref=snap; DigiKey-Purchase-URL: https://snapeda.com/shop?store=DigiKey&id=432205; Mouser-Purchase-URL: https://snapeda.com/shop?store=Mouser&id=432205; Value: *; Price: None
footprint DIOM7959X265N
pins: A, C K

## SM15T12CAY
designator D?
21.7V Clamp 461A (8/20µs) Ipp Tvs Diode Surface Mount SMC; MP: SMBJ36CA-13-F; MF: Diodes Inc.; Package: DO-214 Diodes Inc.; Price: None; Value: *; SnapEDA_Link: https://www.snapeda.com/parts/SMBJ36CA-13-F/Diodes%20Inc./view-part/828964/?ref=snap; Availability: Unavailable
footprint DIOM7959X262N
pins: 1, 2

## SOLDERJUMPERNO
designator SJ?
Solder JumperStandard SMD solder jumper. Used to automate production. Two varients : Normally Open and Normally Closed are the same, but have different paste layers. NC will have a large amount of paste and should jumper during reflow.; GateName_1: 1; SymbolName_1: SJ; DeviceName: NO; LibraryName: SparkFun-Passives; DeviceSetName: SOLDERJUMPER
footprint SJ_2S-NO
pins: 1, 2

## SOLDERJUMPERTRACE
designator SJ?
Solder JumperStandard SMD solder jumper. Used to automate production. Two varients : Normally Open and Normally Closed are the same, but have different paste layers. NC will have a large amount of paste and should jumper during reflow.; GateName_1: 1; SymbolName_1: SJ; DeviceName: TRACE; LibraryName: SparkFun-Passives; DeviceSetName: SOLDERJUMPER
footprint SJ_2S-TRACE
pins: 1, 2

## SR2803
designator U?  (value not drawn)
330KHZ, 3A SYNCHRONOUS / BUCK CONTROLLER; MF: Taiwan Semiconductor Corporation; MP: TS2509CS RLG; Package: SOP-8 Taiwan Semiconductor; Check_prices: https://www.snapeda.com/parts/TS2509CS%20RLG/Taiwan+Semiconductor+Corporation/view-part/?ref=eda; Value: *; Price: None; Availability: In Stock; SnapEDA_Link: https://www.snapeda.com/parts/TS2509CS%20RLG/Taiwan+Semiconductor+Corporation/view-part/?ref=snap
footprint SOP127P600X175-8N
pins: 1 FB (in), 2 EN (in), 3 COMP, 4 VCC (power), 5 SW (out), 6 SW (out), 7 VSS (power), 8 VSS (power)

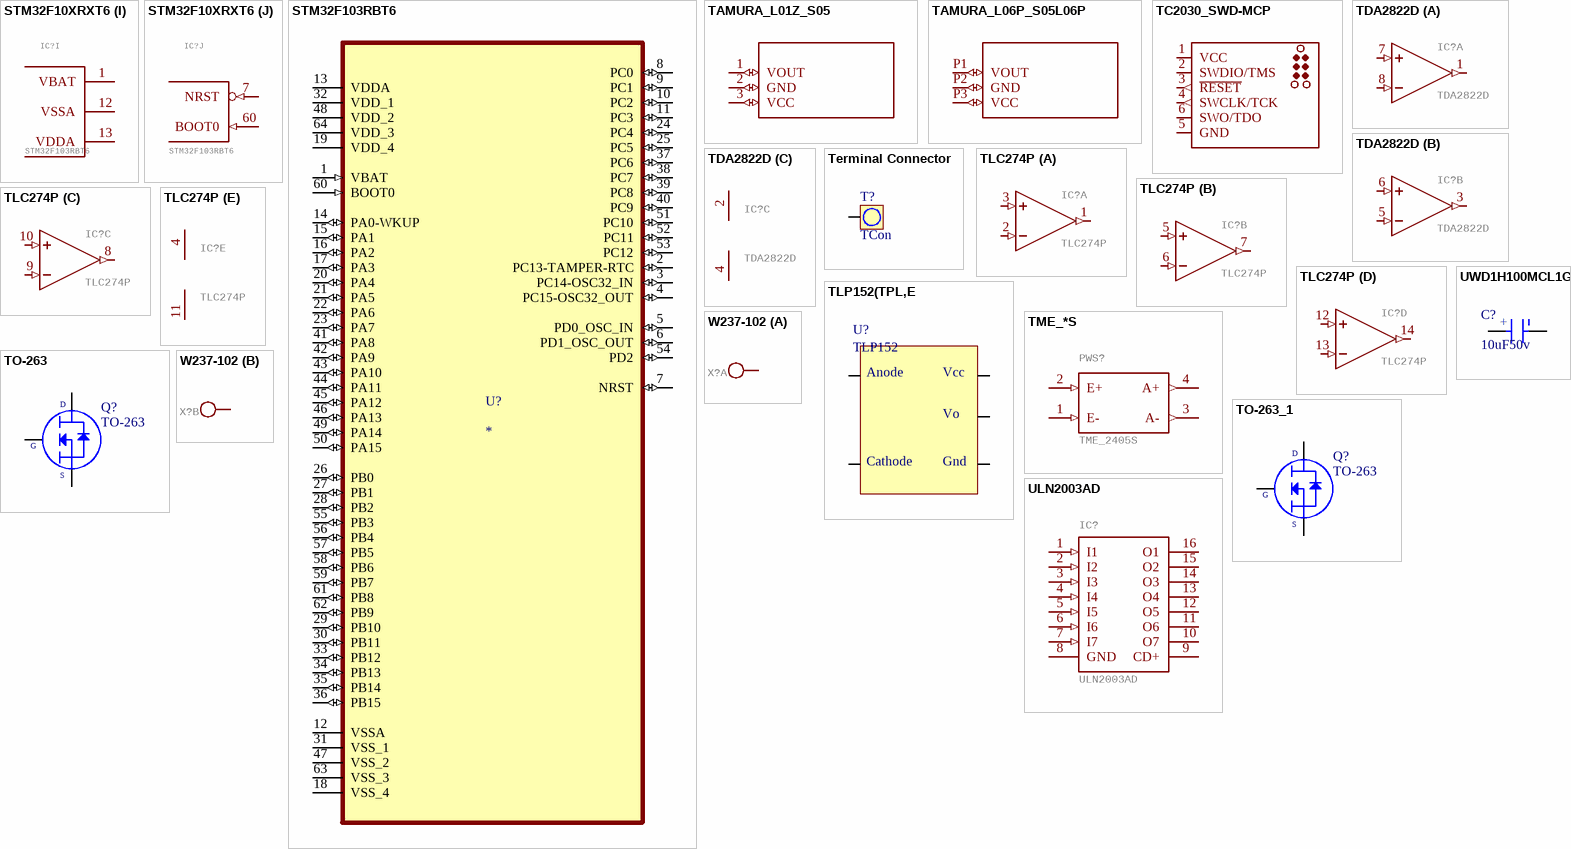
[diagram p3: symbols STM32F10XRXT6 to W237-102]

## STM32F10XRXT6
designator IC?, comment STM32F103RBT6
STM32F101/103 64pin LQFP; GateName_1: PORTA_L; SymbolName_1: PORT_A_L; GateName_2: PORTA_H; SymbolName_2: PORT_A_H; GateName_3: PORTB_L; SymbolName_3: PORT_B_L; GateName_4: PORTB_H; SymbolName_4: PORT_B_H; GateName_5: PORTC_L; SymbolName_5: PORT_C_L; GateName_6: PORTC_H; SymbolName_6: PORT_C_H; GateName_7: POWER; SymbolName_7: VCC_VDD_M; GateName_8: PORTD/OSC; SymbolName_8: PORT_D_3; GateName_9: AN_POWER; SymbolName_9: BAT_AN_M; GateName_10: RESET; SymbolName_10: BOOT_RST; DeviceSetName: STM32F10XRXT6; LibraryName: stm32
footprint TQFP64
part A pins: 14 PA0 (io), 15 PA1 (io), 16 PA2 (io), 17 PA3 (io), 20 PA4 (io), 21 PA5 (io), 22 PA6 (io), 23 PA7 (io)
part B pins: 41 PA8 (io), 42 PA9 (io), 43 PA10 (io), 44 PA11 (io), 45 PA12 (io), 46 PA13 (io), 49 PA14 (io), 50 PA15 (io)
part C pins: 26 PB0 (io), 27 PB1 (io), 28 PB2 (io), 55 PB3 (io), 56 PB4 (io), 57 PB5 (io), 58 PB6 (io), 59 PB7 (io)
part D pins: 29 PB10 (io), 30 PB11 (io), 33 PB12 (io), 34 PB13 (io), 35 PB14 (io), 36 PB15 (io), 61 PB8 (io), 62 PB9 (io)
part E pins: 8 PC0 (io), 9 PC1 (io), 10 PC2 (io), 11 PC3 (io), 24 PC4 (io), 25 PC5 (io), 37 PC6 (io), 38 PC7 (io)
part F pins: 2 PC13 (io), 3 PC14 (io), 4 PC15 (io), 39 PC8 (io), 40 PC9 (io), 51 PC10 (io), 52 PC11 (io), 53 PC12 (io)
part G pins: 18 VSS_4 (power), 19 VDD_4 (power), 31 VSS_1 (power), 32 VDD_1 (power), 47 VSS_2 (power), 48 VDD_2 (power), 63 VSS_3 (power), 64 VDD_3 (power)
part H pins: 5 PD0/OSC<= (io), 6 PD1/OSC=> (io), 54 PD2 (io)
part I pins: 1 VBAT (power), 12 VSSA (power), 13 VDDA (power)
part J pins: 7 NRST (in), 60 BOOT0 (in)

## STM32F103RBT6
designator U?
ARMÂ® CortexÂ®-M3 STM32F1 Microcontroller IC 32-Bit 72MHz 128KB _128K x 8_ FLASH; MP: STM32F103RBT6; MF: STMicroelectronics; Value: *; Package: LQFP-64 STMicroelectronics; Price: None; SnapEDA_Link: https://www.snapeda.com/parts/STM32F103RBT6/STMicroelectronics/view-part/558286/?ref=snap; Availability: Unavailable
footprint QFP50P1200X1200X160-64N
pins: 1 VBAT (in), 2 PC13-TAMPER-RTC (io), 3 PC14-OSC32_IN (io), 4 PC15-OSC32_OUT (io), 5 PD0_OSC_IN (io), 6 PD1_OSC_OUT (io), 7 NRST (io), 8 PC0 (io), 9 PC1 (io), 10 PC2 (io), 11 PC3 (io), 12 VSSA, 13 VDDA (power), 14 PA0-WKUP (io), 15 PA1 (io), 16 PA2 (io), 17 PA3 (io), 18 VSS_4, 19 VDD_4 (power), 20 PA4 (io), 21 PA5 (io), 22 PA6 (io), 23 PA7 (io), 24 PC4 (io), 25 PC5 (io), 26 PB0 (io), 27 PB1 (io), 28 PB2 (io), 29 PB10 (io), 30 PB11 (io), 31 VSS_1, 32 VDD_1 (power), 33 PB12 (io), 34 PB13 (io), 35 PB14 (io), 36 PB15 (io), 37 PC6 (io), 38 PC7 (io), 39 PC8 (io), 40 PC9 (io), 41 PA8 (io), 42 PA9 (io), 43 PA10 (io), 44 PA11 (io), 45 PA12 (io), 46 PA13 (io), 47 VSS_2, 48 VDD_2 (power), 49 PA14 (io), 50 PA15 (io), 51 PC10 (io), 52 PC11 (io), 53 PC12 (io), 54 PD2 (io), 55 PB3 (io), 56 PB4 (io), 57 PB5 (io), 58 PB6 (io), 59 PB7 (io), 60 BOOT0 (in), 61 PB8 (io), 62 PB9 (io), 63 VSS_3, 64 VDD_3 (power)

## TAMURA_L01Z_S05
designator U$?  (value not drawn)
GateName_1: G$1; SymbolName_1: TAMURA_L01Z_S05; LibraryName: current sensor; DeviceSetName: TAMURA_L01Z_S05
footprint TAMURA_L01Z_S05
pins: 1 VOUT (io), 2 GND (io), 3 VCC (io)

## TAMURA_L06P_S05L06P
designator U$?  (value not drawn)
GateName_1: G$1; SymbolName_1: TAMURA_L01Z_S05; DeviceName: L06P; LibraryName: current sensor; DeviceSetName: TAMURA_L06P_S05
footprint TAMURA_L06P_S05
pins: P1 VOUT (io), P2 GND (io), P3 VCC (io)

## TC2030_SWD-MCP
designator J?  (value not drawn)
ARM20-CTX 20-Pin to TC2030-IDC Adapter for Cortex           6-Pin (TC2030-IDC family)  Cortex SWD  Adapters                  The Tag-Connect ARM20-CTX adapter board allows our TC2030-IDC cables to be used for ARM SWD (Single Wire Debug) applications. Although intended for use with our patented TC2030-IDC (and TC2030-IDC-NL) Plug-of-Nailsâ„¢ Cables, the adapter may be useful to people wishing to use 6-pin 0.1â€ ribbon headers on their PCB instead of the traditional 20-Pin header.   Please note the TC2030-IDC or TC2030-IDC-NL cable is purchased separately, the cables and Segger JLINK seen in the pictures are not included!   Download the Datasheet here.; GateName_1: G$1; DeviceName: -MCP; SymbolName_1: SWD; LibraryName: tag-connect; DeviceSetName: TC2030_SWD
footprint TC2030-MCP
pins: 1 VCC, 2 SWDIO/TMS (io), 3 ~{RESET} (out), 4 SWCLK/TCK (out), 5 GND, 6 SWO/TDO (io)

## TDA2822D
designator IC?
OP AMP; GateName_1: A; SymbolName_1: OPAMP; GateName_2: B; GateName_3: P; SymbolName_3: PWR+-; DeviceName: D; SymbolName_2: OPAMP; LibraryName: st-microelectronics; DeviceSetName: TDA2822
footprint SO08
part A pins: 1 OUT (out), 7 +IN (in), 8 -IN (in)
part B pins: 3 OUT (out), 5 -IN (in), 6 +IN (in)
part C pins: 2 V+ (power), 4 V- (power)

## Terminal Connector
designator T?, comment TCon
ComponentLink1Description: https://www.ozdisan.com/konnektor-baglanti-elemanlari/terminal-konnektorler/vida-tipi-konnektorler/K36-00AH; ComponentLink1URL: https://www.ozdisan.com/konnektor-baglanti-elemanlari/terminal-konnektorler/vida-tipi-konnektorler/K36-00AH
footprint connectorout
pins: 1

## TLC274P
designator IC?
OP AMP; GateName_1: A; SymbolName_1: OPAMP; GateName_2: B; GateName_3: C; GateName_4: D; GateName_5: P; SymbolName_5: PWR+-; DeviceSetName: TLC274; SymbolName_2: OPAMP; SymbolName_3: OPAMP; SymbolName_4: OPAMP; DeviceName: P; LibraryName: linear
footprint DIL14
part A pins: 1 OUT (out), 2 -IN (in), 3 +IN (in)
part B pins: 5 +IN (in), 6 -IN (in), 7 OUT (out)
part C pins: 8 OUT (out), 9 -IN (in), 10 +IN (in)
part D pins: 12 +IN (in), 13 -IN (in), 14 OUT (out)
part E pins: 4 V+ (power), 11 V- (power)

## TLP152(TPL,E
designator U?, comment TLP152
OPTOISO 3.75KV GATE DRIVER 6SO-5; Manufacturer: Toshiba; Manufacturer Part Number: TLP152(TPL,E; Number of Channels: 1; Propagation Delay: 165ns; Max Power Dissipation: 260mW; Direction: Unidirectional; Turn-On Delay Time: 190ns; Fall Time: 22ns; Forward Voltage: 1.57V; Output Current: 2.5A; Forward Current: 10mA; Rise Time: 18ns; High Level Output Current: 2A; Pulse Width Distortion (PWD): 50ns; Supplier 1: Mouser; RoHS: Yes; Stock 1: 22321; Pricing 1: 1 = 1.55000, 10 = 0.96800, 50 = 0.96800, 100 = 0.87200, 1000 = 0.54300, 10000 = 0.44000 (USD); Mount: Surface Mount; Case/Package: SO; Number of Pins: 5; Min Operating Temperature: -40°C; Max Operating Temperature: 100°C; Packaging: Tape and Reel; Package Quantity: 3000; Low Level Output Current: 2A; Max Output Current: 2.5A; ComponentLink1URL: https://datasheet.ciiva.com/41848/tlp152-datasheet-en-20120914-41848928.pdf?src-supplier=Digi-Key; ComponentLink1Description: https://datasheet.ciiva.com/41848/tlp152-datasheet-en-20120914-41848928.pdf?src-supplier=Digi-Key; Supplier Part Number 1: 757-TLP152TPLE
footprint TLP152 (SOTFL, 5-Leads, Body 3.75x7.20mm, Pitch 1.27mm, IPC Medium Density)
pins: 1, 2, 3, 4, 5
text: Anode; Vcc; Vo; Cathode; Gnd

## TME_*S
designator PWS?, comment TME_2405S
DC/DC Konverter 1 Watt   Source: http://www.tracopower.com/datasheet_g/tme-d.pdf; MPN: TME 2405S; GateName_1: G$1; SymbolName_1: TMEXXXXS; DeviceSetName: TME_*S; LibraryName: traco-electronic; MF: MF; OC_FARNELL: 1007547; OC_NEWARK: 51R5329
footprint TMEXXXXS
pins: 1 E- (in), 2 E+ (in), 3 A- (out), 4 A+ (out)

## TO-263
designator Q?
footprint DPAK_TO263 (D2-PAK, 3-Pads, Body 7.93x8.70mm (max), IPC Medium Density)
pins: 1, 2, 3
text: D; G; S

## TO-263_1
designator Q?, comment TO-263
footprint DPAK_TO263 (D2-PAK, 3-Pads, Body 7.93x8.70mm (max), IPC Medium Density)
pins: 1, 2, 3
text: D; G; S

## ULN2003AD
designator IC?
DRIVER ARRAY; GateName_1: A; SymbolName_1: 2001A; DeviceName: D; LibraryName: uln-udn; DeviceSetName: ULN2003A
footprint SO16
pins: 1 I1 (in), 2 I2 (in), 3 I3 (in), 4 I4 (in), 5 I5 (in), 6 I6 (in), 7 I7 (in), 8 GND (power), 9 CD+, 10 O7 (oc), 11 O6 (oc), 12 O5 (oc), 13 O4 (oc), 14 O3 (oc), 15 O2 (oc), 16 O1 (oc)

## UWD1H100MCL1GS
designator C?, comment 10uF50v
Aluminum Electrolytic Capacitors - SMD 50volts 10uF 6.3x5.8; Manufacturer: Nichicon; Manufacturer Part Number: UWD1H100MCL1GS; Material: Aluminium; Voltage Rating: 50V; Tolerance: 20%; Ripple Current: 165mA; Impedance: 880mR; Leakage Current: 3uA; Life (Hours): 2000Hour; Dissipation Factor: 0.12%; Supplier 1: Digi-Key; RoHS: Yes; Stock 1: 8000; Pricing 1: 1000 = 0.23520, 2000 = 0.22050, 5000 = 0.20580, 10000 = 0.19845, 25000 = 0.19110, 50000 = 0.19040 (USD); Mount: Surface Mount; Case/Package: SMD/SMT; Min Operating Temperature: -55°C; Max Operating Temperature: 105°C; Package Quantity: 1; Capacitance: 10uF; Packaging: Tape and Reel; Voltage Rating (DC): 50V; Termination: SMD/SMT; Voltage: 50V; Features: General Purpose; Diameter: 6.3mm; Length: 5.8mm; Height: 5.8mm; Height - Seated (Max): 0.24inch; Lead Pitch: 2.2mm; Radiation Hardening: No; Lead Free: Lead Free; ComponentLink1URL: https://datasheet.ciiva.com/11783/0900766b8080ae55-11783196.pdf?src-supplier=RSComponents; ComponentLink1Description: https://datasheet.ciiva.com/11783/0900766b8080ae55-11783196.pdf?src-supplier=RSComponents; ComponentLink2URL: https://datasheet.ciiva.com/17526/e-wd-17526757.pdf?src-supplier=Avnet+Europe; ComponentLink2Description: https://datasheet.ciiva.com/17526/e-wd-17526757.pdf?src-supplier=Avnet+Europe; ComponentLink3URL: https://datasheet.ciiva.com/5362/e-wd-5362054.pdf?src-supplier=Mouser; ComponentLink3Description: https://datasheet.ciiva.com/5362/e-wd-5362054.pdf?src-supplier=Mouser; ComponentLink4URL: https://datasheet.ciiva.com/11686/e-wd-11686678.pdf?src-supplier=Avnet; ComponentLink4Description: https://datasheet.ciiva.com/11686/e-wd-11686678.pdf?src-supplier=Avnet; ComponentLink5URL: https://datasheet.ciiva.com/6310/e-wd-6310126.pdf?src-supplier=Digi-Key; ComponentLink5Description: https://datasheet.ciiva.com/6310/e-wd-6310126.pdf?src-supplier=Digi-Key; ComponentLink6URL: https://datasheet.ciiva.com/6310/e-wd-6310127.pdf?src-supplier=Digi-Key; ComponentLink6Description: https://datasheet.ciiva.com/6310/e-wd-6310127.pdf?src-supplier=Digi-Key; Supplier Part Number 1: 493-6294-2-ND
footprint CapSmdElc (Aluminum Electrolytic Capacitor, Body 6.70x6.70x6.30mm, IPC Low Density)
pins: 1, 2
text: +

## W237-102
designator X?  (value not drawn)
WAGO SCREW CLAMP; GateName_1: -1; SymbolName_1: KL; GateName_2: -2; SymbolName_2: KL+V; LibraryName: con-wago-500; DeviceSetName: W237-102; MF: MF; MPN: 237-102; OC_FARNELL: unknown; OC_NEWARK: 70K9898
footprint W237-102
part A pins: 1 KL
part B pins: 2 KL